# Altium schematic symbol library 2pnp.SchLib: 1 symbol
Pins are listed as number, name and electrical type; pins without a type are passive.

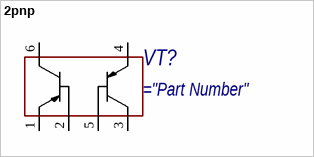
[diagram p0: symbol 2pnp]

## 2pnp
designator VT?
pins: 1, 2, 3, 4, 5, 6